# Altium footprint library DSO.PcbLib: 35 footprints (part 2 of 3)
Each footprint in its own frame and in the unit in brackets; x right, y up, seen from the top. Pads: shape width x height; smd on the part's side, far side on the other; paste and mask are expansions set on the pad; w line width, h text height; cw(c..) or ccw(c..) is an arc to the next point about the centre after c.
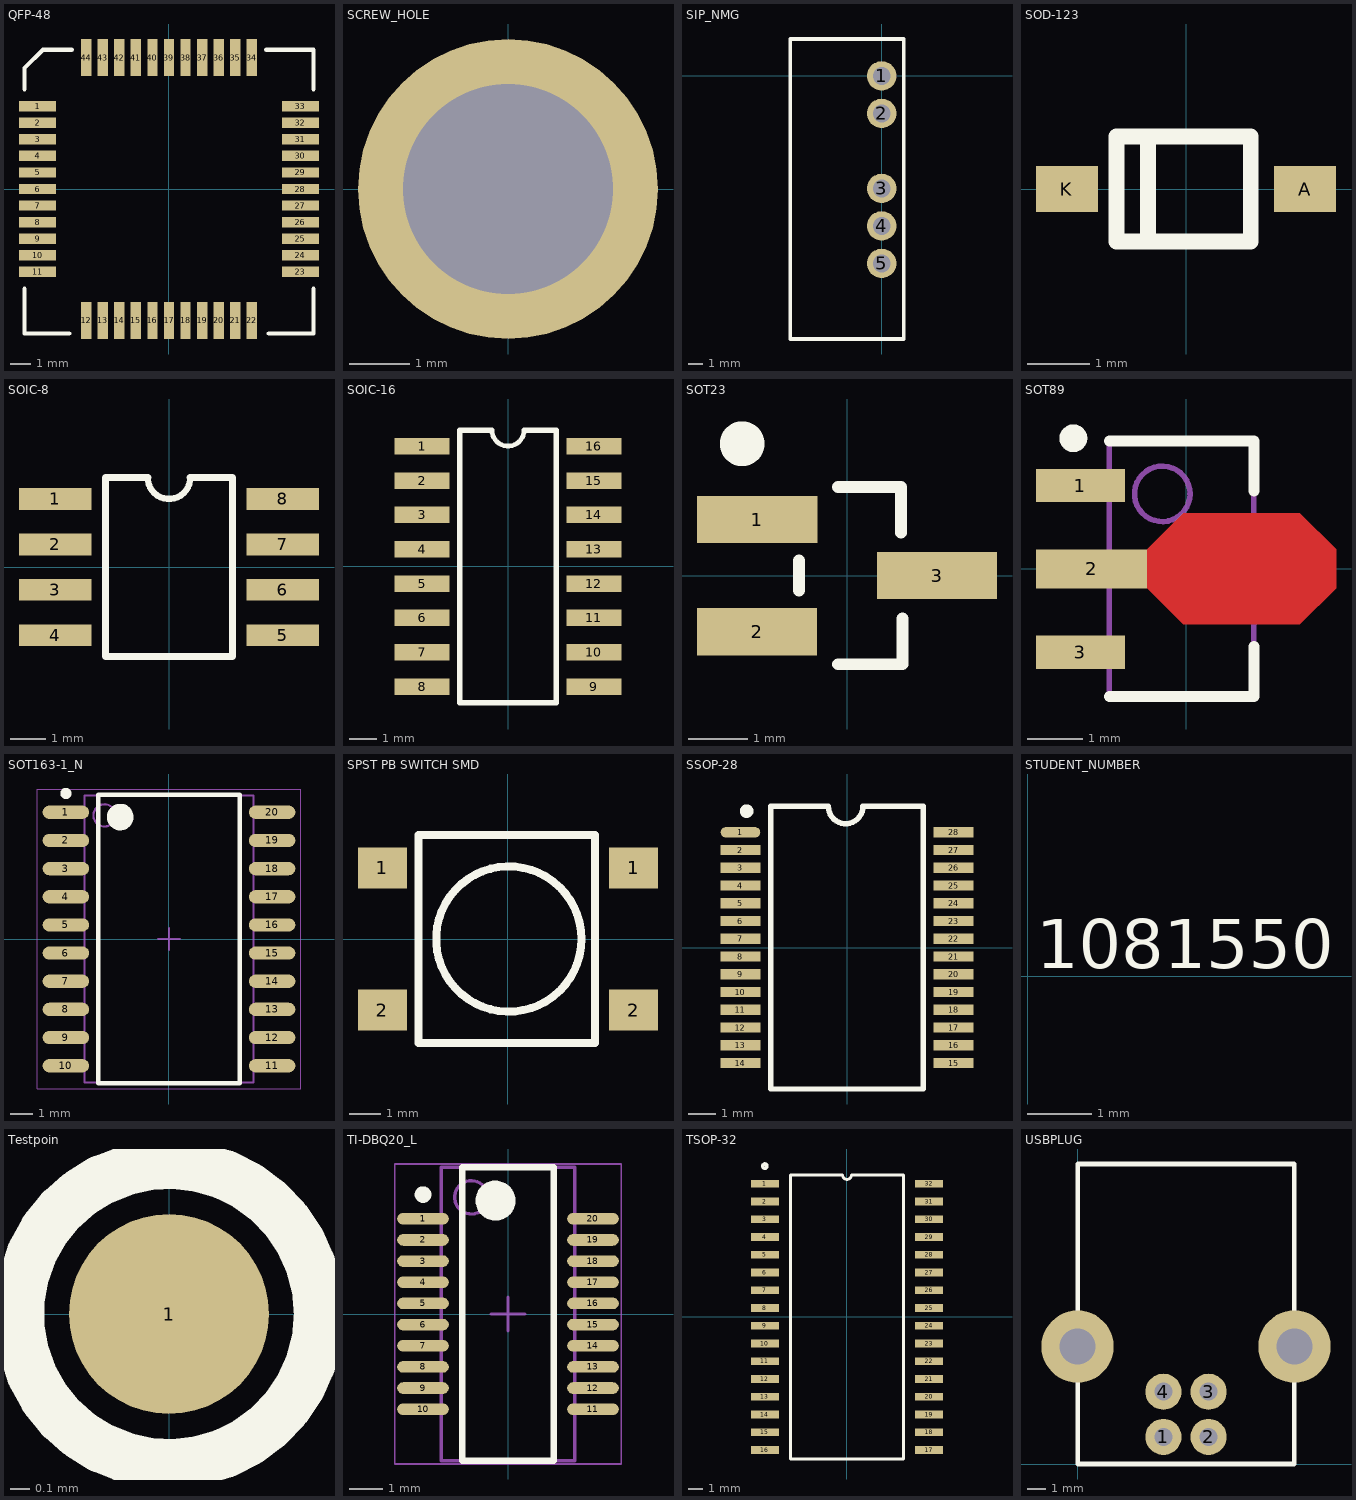
[diagram p1: the footprints below, top view; thin cyan lines are the x and y axes]

## QFP-48 [mm]
height 1
pads (44):
  rect 1.8x0.5 smd: 1(-6.35,4) 2(-6.35,3.2) 3(-6.35,2.4) 4(-6.35,1.6) 5(-6.35,0.8) 6(-6.35,0) 7(-6.35,-0.8) 8(-6.35,-1.6) 9(-6.35,-2.4) 10(-6.35,-3.2) 11(-6.35,-4) 23(6.35,-4) 24(6.35,-3.2) 25(6.35,-2.4) 26(6.35,-1.6) 27(6.35,-0.8) 28(6.35,0) 29(6.35,0.8) 30(6.35,1.6) 31(6.35,2.4) 32(6.35,3.2) 33(6.35,4)
  rect 0.5x1.8 smd: 12(-4,-6.35) 13(-3.2,-6.35) 14(-2.4,-6.35) 15(-1.6,-6.35) 16(-0.8,-6.35) 17(0,-6.35) 18(0.8,-6.35) 19(1.6,-6.35) 20(2.4,-6.35) 21(3.2,-6.35) 22(4,-6.35) 34(4,6.35) 35(3.2,6.35) 36(2.4,6.35) 37(1.6,6.35) 38(0.8,6.35) 39(0,6.35) 40(-0.8,6.35) 41(-1.6,6.35) 42(-2.4,6.35) 43(-3.2,6.35) 44(-4,6.35)
Top Overlay:
  lines w0.203: -6.985,-4.826 -6.985,-6.985 -4.826,-6.985 ; -6.985,4.826 -6.985,5.842 -6.096,6.731 -4.699,6.731 ; 4.699,6.731 6.985,6.731 6.985,4.826 ; 4.826,-6.985 6.985,-6.985 6.985,-4.826
3D body "User Library-44 pin tqfp ic package.step": height 1.13, standoff 0.02, extent -5.974,-6 6.026,6

## SCREW_HOLE [mm]
pads (1):
  round 5 hole 3.5: ""(0,0)

## SIP_NMG [mm] "SIP for NMG DC to DC"
height 7.65
pads (5):
  round 2 hole 1.2: 1(0,0) 2(0,-2.54) 3(0,-7.62) 4(0,-10.16) 5(0,-12.7)
Top Overlay:
  lines w0.254: -6.2,-17.82 -6.2,2.5 1.5,2.5 1.5,-17.82 -6.2,-17.82
3D body: height 10.2, standoff 0, extent -6.2,-17.8 1.5,2.5

## SOD-123 [mm] "SMD diode"
height 1.35
pads (2):
  rect 1x0.75 smd: A(1.925,0) K(-1.925,0)
Top Overlay:
  lines w0.254: -0.615,-0.85 -0.615,0.85 ; 1.036,-0.85 -1.123,-0.85 -1.123,0.85 1.036,0.85 ; 1.049,-0.85 1.049,0.85
3D body "User Library-SOD-123_DiodesInc.STEP": height 1.42, standoff -0.03, extent -1.93,-0.862 1.92,0.838

## SOIC-8 [mil] "SOIC-8 Footprint"
height 68.9
pads (8):
  rect 80x24 smd: 1(-125,75) 2(-125,25) 3(-125,-25) 4(-125,-75) 5(125,-75) 6(125,-25) 7(125,25) 8(125,75)
Top Overlay:
  lines w7: -23.43,98.42 ccw(c0,98.42) 23.43,98.42
  lines w7.87: -23.43,98.43 -70,98.43 -70,-98.43 70,-98.43 70,98.43 23.43,98.43
3D body "SOIC127P600X175-8N.step": height 68.98, standoff 0, extent -117.99,-98.43 117.99,98.43

## SOIC-16 [mil] "SOIC-16 Footprint"
height 68.9
pads (16):
  rect 80x24 smd: 1(-125,175) 2(-125,125) 3(-125,75) 4(-125,25) 5(-125,-25) 6(-125,-75) 7(-125,-125) 8(-125,-175) 9(125,-175) 10(125,-125) 11(125,-75) 12(125,-25) 13(125,25) 14(125,75) 15(125,125) 16(125,175)
Top Overlay:
  lines w7: -23.43,198.43 ccw(c0,198.43) 23.43,198.43
  lines w7.87: -23.43,198.43 -70,198.43 -70,-198.43 70,-198.43 70,198.43 23.43,198.43
3D body "SOIC127P600X175-16M.step": height 68.9, standoff 0, extent -118.11,-196.85 118.11,196.85

## SOT23 [mm] "SOT23, 3-Leads, Body 3.0x2.5mm (max), Pitch 0.95mm, IPC Low Density"
height 1.35
pads (3):
  rect 2.038x0.8 smd: 1(-1.524,0.95)
  rect 2.032x0.8 smd: 2(-1.524,-0.95) 3(1.524,0)
Top Overlay:
  circle w0.508: c-1.776,2.235 r0.125
  lines w0.2: -0.813,-0.254 -0.813,0.254 ; -0.152,-1.5 0.94,-1.5 0.94,-0.725 ; -0.152,1.5 0.914,1.5 0.914,0.725
3D body "User Library-SOT23-2.step": height 1.08, standoff 0, extent -1.32,-1.5 1.32,1.5

## SOT89 [mm] "SOT89, 3-Leads, Body 4.50x2.50mm, Pitch 1.50mm, Lead Span 4.1mm, IPC Low Density"
height 1.6
pads (3):
  rect 1.6x0.6 smd: 1(-1.9,1.5) 3(-1.9,-1.5)
  rect 2x0.7 smd: 2(-1.7,0)
Top Layer:
  region: -0.7,0.35 -0.05,1 2.05,1 2.7,0.35 2.7,-0.35 2.05,-1 -0.05,-1 -0.7,-0.35
Top Overlay:
  circle w0.25: c-2.027,2.35 r0.125
  lines w0.2: -1.378,-2.3 1.222,-2.3 1.222,-1.4 ; -1.378,2.3 1.222,2.3 1.222,1.4
Mechanical 13:
  circle w0.1: c-0.427,1.35 r0.5
  lines w0.1: -1.378,-2.3 -1.378,2.3 1.222,2.3 1.222,-2.3 -1.378,-2.3
Mechanical 15:
  lines w0.1: -0.577,0 0.423,0 ; -0.078,-0.5 -0.078,0.5
3D body "SOT89-150P410X160-3M.step": height 1.6, standoff 0, extent -2.2,-2.3 1.85,2.3

## SOT163-1_N [mm] "SOIC, 20-Leads, Body 12.7x7.5mm, Pitch 1.27mm, IPC Medium Density"
height 2.54
pads (20):
  oval 2.1x0.6 smd: 1(-4.65,5.715) 2(-4.65,4.445) 3(-4.65,3.175) 4(-4.65,1.905) 5(-4.65,0.635) 6(-4.65,-0.635) 7(-4.65,-1.905) 8(-4.65,-3.175) 9(-4.65,-4.445) 10(-4.65,-5.715) 11(4.65,-5.715) 12(4.65,-4.445) 13(4.65,-3.175) 14(4.65,-1.905) 15(4.65,-0.635) 16(4.65,0.635) 17(4.65,1.905) 18(4.65,3.175) 19(4.65,4.445) 20(4.65,5.715)
Top Overlay:
  circle w0.6: c-2.2,5.5 r0.3
  circle w0.25: c-4.65,6.565 r0.125
  lines w0.2: -3.2,-6.5 3.2,-6.5 3.2,6.5 -3.2,6.5 -3.2,-6.5
Mechanical 13:
  circle w0.1: c-2.91,5.575 r0.5
  lines w0.1: -3.81,-6.475 3.81,-6.475 3.81,6.475 -3.81,6.475 -3.81,-6.475
Mechanical 15:
  lines w0.05: -5.95,-6.75 5.95,-6.75 5.95,6.75 -5.95,6.75 -5.95,-6.75
  lines w0.1: -0.5,0 0.5,0 ; 0,-0.5 0,0.5
3D body "SOIC127P1030X265-20M.step": height 2.65, standoff 0, extent -5.15,-6.5 5.15,6.5

## SPST PB SWITCH SMD [mm] "Push Button Switch Surface Mount"
height 3
pads (4):
  rect 1.55x1.3 smd: 1(-3.975,2.25) 1(3.975,2.25) 2(-3.975,-2.25) 2(3.975,-2.25)
Top Overlay:
  circle w0.254: c0.025,0 r2.3
  lines w0.254: -2.832,-3.3 2.756,-3.3 2.756,3.3 -2.832,3.3 -2.832,-3.3
3D body "PTS645SH50SMTR92LFS.stp": height 5, standoff 0, extent -4.5,-3 4.5,3

## SSOP-28 [mm] "Line Driver"
height 2
pads (28):
  oval 1.45x0.38 smd: 1(-3.9,4.225)
  rect 1.45x0.38 smd: 2(-3.9,3.575) 3(-3.9,2.925) 4(-3.9,2.275) 5(-3.9,1.625) 6(-3.9,0.975) 7(-3.9,0.325) 8(-3.9,-0.325) 9(-3.9,-0.975) 10(-3.9,-1.625) 11(-3.9,-2.275) 12(-3.9,-2.925) 13(-3.9,-3.575) 14(-3.9,-4.225) 15(3.9,-4.225) 16(3.9,-3.575) 17(3.9,-2.925) 18(3.9,-2.275) 19(3.9,-1.625) 20(3.9,-0.975) 21(3.9,-0.325) 22(3.9,0.325) 23(3.9,0.975) 24(3.9,1.625) 25(3.9,2.275) 26(3.9,2.925) 27(3.9,3.575) 28(3.9,4.225)
Top Overlay:
  circle w0.25: c-3.675,5 r0.125
  lines w0.2: -2.794,-5.175 -2.794,5.175 -0.685,5.175 ccw(c-0.05,5.175) 0.585,5.175 2.794,5.175 2.794,-5.175 -2.794,-5.175
3D body "TSSOP-28.STEP": height 2, standoff 0, extent -3.9,-5.1 3.9,5.1

## STUDENT_NUMBER [mm]
Top Overlay:
  text "1081550" at 0.127,0.127 h0.76

## Testpoin [mil] "Testpoint"
pads (1):
  round 40 smd: 1(0,0)
Top Overlay:
  circle w10: c0,0 r30

## TI-DBQ20_L [mm] "SOP, 20-Leads, Body 8.65x3.9mm, Pitch 0.635mm, IPC High Density"
height 1.75
pads (20):
  oval 1.55x0.35 smd: 1(-2.55,2.857) 2(-2.55,2.222) 3(-2.55,1.587) 4(-2.55,0.953) 5(-2.55,0.318) 6(-2.55,-0.318) 7(-2.55,-0.953) 8(-2.55,-1.587) 9(-2.55,-2.222) 10(-2.55,-2.857) 11(2.55,-2.857) 12(2.55,-2.222) 13(2.55,-1.587) 14(2.55,-0.953) 15(2.55,-0.318) 16(2.55,0.318) 17(2.55,0.953) 18(2.55,1.587) 19(2.55,2.222) 20(2.55,2.857)
Top Overlay:
  circle w0.25: c-2.55,3.582 r0.125
  circle w0.6: c-0.375,3.4 r0.3
  lines w0.2: -1.375,-4.4 -1.375,4.4 1.375,4.4 1.375,-4.4 -1.375,-4.4
Mechanical 13:
  circle w0.1: c-1.1,3.5 r0.5
  lines w0.1: -2,-4.4 -2,4.4 2,4.4 2,-4.4 -2,-4.4
Mechanical 15:
  lines w0.05: -3.4,-4.5 -3.4,4.5 3.4,4.5 3.4,-4.5 -3.4,-4.5
  lines w0.1: -0.5,0 0.5,0 ; 0,-0.5 0,0.5
3D body "SOP64P600X175-20N.step": height 1.75, standoff 0, extent -3,-4.4 3,4.4

## TSOP-32 [mm]
height 5
pads (32):
  rect 2x0.55 smd: 1(-5.88,9.525) 2(-5.88,8.255) 3(-5.88,6.985) 4(-5.88,5.715) 5(-5.88,4.445) 6(-5.88,3.175) 7(-5.88,1.905) 8(-5.88,0.635) 9(-5.88,-0.635) 10(-5.88,-1.905) 11(-5.88,-3.175) 12(-5.88,-4.445) 13(-5.88,-5.715) 14(-5.88,-6.985) 15(-5.88,-8.255) 16(-5.88,-9.525) 17(5.88,-9.525) 18(5.88,-8.255) 19(5.88,-6.985) 20(5.88,-5.715) 21(5.88,-4.445) 22(5.88,-3.175) 23(5.88,-1.905) 24(5.88,-0.635) 25(5.88,0.635) 26(5.88,1.905) 27(5.88,3.175) 28(5.88,4.445) 29(5.88,5.715) 30(5.88,6.985) 31(5.88,8.255) 32(5.88,9.525)
Top Overlay:
  circle w0.254: c-5.88,10.795 r0.15
  lines w0.2: -4.045,-10.16 -4.045,10.16 -0.318,10.16 ccw(c0,10.16) 0.318,10.16 4.045,10.16 4.045,-10.16 -4.045,-10.16
3D body "TSOP127P1180X120-32N.step": height 1.2, standoff 0, extent -5.88,-10.55 5.88,10.55

## USBPLUG [mm]
height 1.3
pads (6):
  round 2 hole 1: 1(4.75,1.5) 2(7.25,1.5) 3(7.25,4) 4(4.75,4)
  round 4 hole 2: ""(0,6.5) ""(12,6.5)
Top Overlay:
  lines w0.254: 11.9,0 0,0 0,16.6 12,16.6 12,0
3D body "Download_STP_61400416121 (rev1).stp": height 11.06, standoff -3.79, extent -1.515,0.292 13.453,16.792